# EAGLE library part EEPROM (library custom_library)
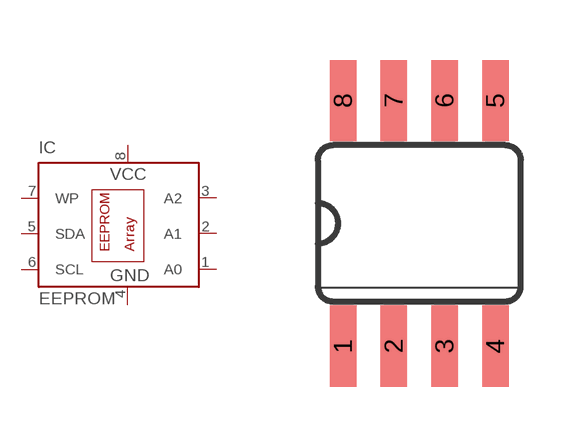
[diagram p10: symbol with the pads of SO8; footprint SO8]

Designator prefix IC

## EEPROMM24256-BRMN6TP  [SO8]
1  A0  pas
2  A1  pas
3  A2  pas
4  GND  pwr
5  SDA
6  SCL  in
7  WP  pas
8  VCC  pwr

## Footprint SO8 (pad centres in mm)
smd 0.66 x 2.032: 1 -1.905,-3.073; 2 -0.635,-3.073; 3 0.635,-3.073; 4 1.905,-3.073; 5 1.905,3.073; 6 0.635,3.073; 7 -0.635,3.073; 8 -1.905,3.073